# Altium footprint library Nhu-Altium-Schematic-Lin.PcbLib: 59 footprints (part 3 of 4)
Each footprint in its own frame and in the unit in brackets; x right, y up, seen from the top. Pads: shape width x height; smd on the part's side, far side on the other; paste and mask are expansions set on the pad; w line width, h text height; cw(c..) or ccw(c..) is an arc to the next point about the centre after c.
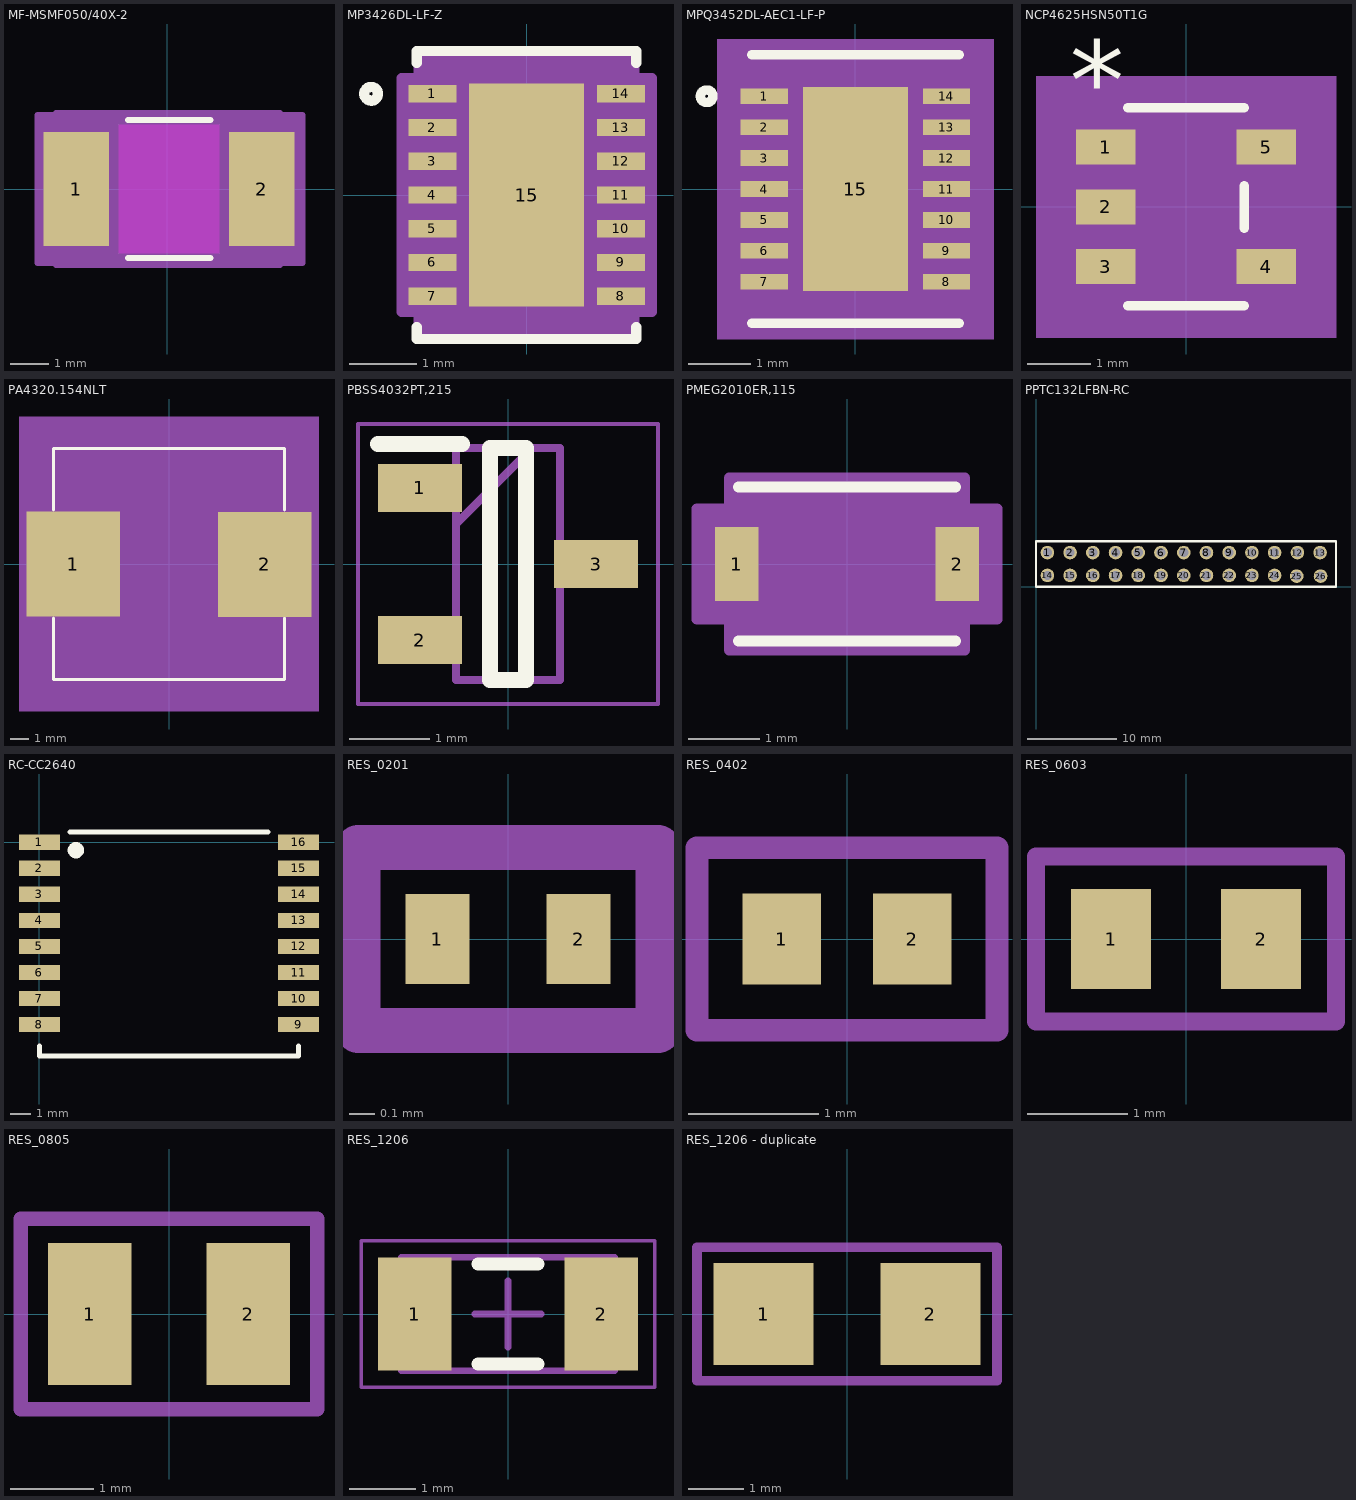
[diagram p2: the footprints below, top view; thin cyan lines are the x and y axes]

## MF-MSMF050/40X-2 [mm]
pads (2):
  rect 1.68x2.95 smd paste+0 mask+0: 1(-2.349,0) 2(2.43,0)
Top Layer keep-out:
  region: -1.255,-1.651 -1.255,1.651 1.335,1.651 1.335,-1.651
Top Overlay:
  lines w0.152: -1.016,-1.778 1.114,-1.778 ; -1.016,1.778 1.114,1.778
Mechanical 13:
  lines w0.025: -2.616,-1.702 -2.616,1.702 2.108,1.702 2.108,-1.702 -2.616,-1.702
Mechanical 15:
  region: -2.819,-1.905 -3.302,-1.905 -3.302,1.905 -2.819,1.905 -2.819,1.956 2.413,1.956 2.413,1.905 3.556,1.905 3.556,-1.905 2.413,-1.905 2.413,-1.956 -2.819,-1.956
  lines w0.152: 2.362,1.905 2.362,1.956 ; 2.845,-1.956 2.845,1.905 ; 2.897,-1.956 -2.87,-1.956 -2.87,-1.905 -3.353,-1.905 -3.353,1.905 -2.87,1.905 -2.87,1.956 2.897,1.956 ; 2.897,1.905 3.48,1.905 ; 2.997,-1.905 3.48,-1.905
3D body "MF-MSMF050.STEP": height 0.85, standoff 0, extent -2.159,-1.62 2.391,1.62

## MP3426DL-LF-Z [mil]
pads (15):
  rect 28x10 smd paste+0 mask+0: 1(-55,59.06) 2(-55,39.37) 3(-55,19.68) 4(-55,0) 5(-55,-19.69) 6(-55,-39.37) 7(-55,-59.06) 8(55,-59.06) 9(55,-39.37) 10(55,-19.68) 11(55,0) 12(55,19.69) 13(55,39.37) 14(55,59.06)
  rect 67x130 smd paste+0 mask+0: 15(0,0)
Top Overlay:
  circle w6: c-90.69,59.06 r4
  lines w6: -64,-77.16 -64,-84 64,-84 64,-77.16 ; -64,77.16 -64,84 64,84 64,77.16
Top Paste:
  region: 29.56,-3.94 -29.56,-3.94 -29.56,-61.06 29.56,-61.06
  region: 29.56,61.06 -29.56,61.06 -29.56,3.94 29.56,3.94
Mechanical 13:
  circle w0: c-41,59.06 r3
  lines w0: -12,79 ccw(c0,79) 12,79
  lines w1: -59,-79 -59,79 59,79 59,-79 -59,-79
Mechanical 15:
  region: -63,-68.06 -73,-68.06 -73,68.06 -63,68.06 -63,83 63,83 63,68.06 73,68.06 73,-68.06 63,-68.06 63,-83 -63,-83
  lines w6: -73,-68.06 -63,-68.06 -63,-83 63,-83 63,-68.06 73,-68.06 73,68.06 63,68.06 63,83 -63,83 -63,68.06 -73,68.06 -73,-68.06
3D body "QFN14_3X4_MNP.step": height 39.09, standoff 0, extent -60.98,-79.02 60.98,79.02

## MPQ3452DL-AEC1-LF-P [mil]
pads (15):
  rect 30x10 smd paste+0 mask+0: 1(-58,59.06) 2(-58,39.37) 3(-58,19.68) 4(-58,0) 5(-58,-19.69) 6(-58,-39.37) 7(-58,-59.06) 8(58,-59.06) 9(58,-39.37) 10(58,-19.68) 11(58,0) 12(58,19.69) 13(58,39.37) 14(58,59.06)
  rect 67x130 smd paste+0 mask+0: 15(0,0)
Top Overlay:
  circle w6: c-94.69,59.06 r4
  lines w6: -66,-85.5 66,-85.5 ; -66,85.5 66,85.5
Top Paste:
  region: 29.56,61.06 -29.56,61.06 -29.56,3.94 29.56,3.94
  region: 29.56,-3.94 -29.56,-3.94 -29.56,-61.06 29.56,-61.06
Mechanical 5:
  region: 88,-95.5 -88,-95.5 -88,95.5 88,95.5
Mechanical 13:
  circle w0: c-43,59.06 r3
  lines w0: -12,80.5 ccw(c0,80.5) 12,80.5
  lines w1: -61,-80.5 61,-80.5 61,80.5 -61,80.5 -61,-80.5
Mechanical 15:
  region: -71,-74.06 -83,-74.06 -83,74.06 -71,74.06 -71,90.5 71,90.5 71,74.06 83,74.06 83,-74.06 71,-74.06 71,-90.5 -71,-90.5
  lines w6: -83,-74.06 -83,74.06 -71,74.06 -71,90.5 71,90.5 71,74.06 83,74.06 83,-74.06 71,-74.06 71,-90.5 -71,-90.5 -71,-74.06 -83,-74.06
3D body "QFN-14_MPQ3452_MNP.step": height 37.09, standoff 0, extent -60.98,-80.51 60.98,80.51

## NCP4625HSN50T1G [mil]
pads (5):
  rect 37.5x22 smd paste+0 mask+0: 1(-50.25,37.4) 2(-50.25,0) 3(-50.25,-37.4) 4(50.25,-37.4) 5(50.25,37.4)
Top Overlay:
  lines w6: -36.5,-62 36.5,-62 ; -36.5,62 36.5,62 ; 36.5,-13.3 36.5,13.3
  text "*" at -72.75,54.4 h50
Mechanical 5:
  region: 94,-82 -94,-82 -94,82 94,82
Mechanical 13:
  lines w0: -12,57 ccw(c0,57) 12,57
  lines w1: -55,-47.4 -55,-27.4 -31.5,-27.4 -31.5,-47.4 -55,-47.4 ; -55,-10 -55,10 -31.5,10 -31.5,-10 -55,-10 ; -55,27.4 -55,47.4 -31.5,47.4 -31.5,27.4 -55,27.4 ; -31.5,-57 31.5,-57 31.5,57 -31.5,57 -31.5,-57 ; 31.5,-47.4 31.5,-27.4 55,-27.4 55,-47.4 31.5,-47.4 ; 31.5,27.4 31.5,47.4 55,47.4 55,27.4 31.5,27.4
  text "*" at -29,4 h50
Mechanical 15:
  region: -41.5,-58.4 -79,-58.4 -79,58.4 -41.5,58.4 -41.5,67 41.5,67 41.5,58.4 79,58.4 79,-58.4 41.5,-58.4 41.5,-67 -41.5,-67
  lines w6: -79,-58.4 -79,58.4 -41.5,58.4 -41.5,67 41.5,67 41.5,58.4 79,58.4 79,-58.4 41.5,-58.4 41.5,-67 -41.5,-67 -41.5,-58.4 -79,-58.4
3D body "SOT23-5_ONS.step": height 57.09, standoff 0, extent -55,-57.01 55,57.01

## PA4320.154NLT [mil]
pads (2):
  rect 200x225 smd paste+0 mask+0: 1(-205,0) 2(205,-0.87)
Top Overlay:
  lines w6: -247,-115.6 -247,-247 247,-247 247,-115.6 ; -247,115.6 -247,247 247,247 247,115.6
Mechanical 5:
  region: 320.5,-314.5 -320.5,-314.5 -320.5,314.5 320.5,314.5
Mechanical 13:
  lines w1: -242,-121 -121,-242 ; -242,121 -121,242 ; -242,-242 -242,242 242,242 242,-242 -242,-242
Mechanical 15:
  region: 242,-242 -242,-242 -242,242 242,242
  region: -252,-112.5 -258,-112.5 -258,112.5 -252,112.5 -252,252 252,252 252,112.5 258,112.5 258,-112.5 252,-112.5 252,-252 -252,-252
  lines w6: -258,-112.5 -252,-112.5 -252,-252 252,-252 252,-112.5 258,-112.5 258,112.5 252,112.5 252,252 -252,252 -252,112.5 -258,112.5 -258,-112.5
3D body "IND_PA4320_PUL.step": height 402.01, standoff 0, extent -242.01,-242.01 242.01,242.01

## PBSS4032PT,215 [mm]
pads (3):
  rect 1.05x0.6 smd: 1(-1.1,0.95) 2(-1.1,-0.95) 3(1.1,0)
Top Overlay:
  lines w0.2: -1.625,1.5 -0.575,1.5 ; -0.225,-1.45 0.225,-1.45 0.225,1.45 -0.225,1.45 -0.225,-1.45
Mechanical 13:
  lines w0.1: -0.65,0.5 0.3,1.45 ; -0.65,-1.45 0.65,-1.45 0.65,1.45 -0.65,1.45 -0.65,-1.45
Mechanical 15:
  lines w0.05: -1.875,-1.75 1.875,-1.75 1.875,1.75 -1.875,1.75 -1.875,-1.75
3D body "PBSS4032PT,215.stp": height 0.84, standoff -0.11, extent -1.27,-1.45 1.131,1.45

## PCBComponent_1 [mil]

## PMEG2010ER,115 [mil]
pads (2):
  rect 24x41 smd paste+0 mask+0: 1(-60.83,0) 2(60.83,0)
Top Overlay:
  lines w6: -60,-42.5 60,-42.5 ; -60,42.5 60,42.5
Mechanical 13:
  lines w1: -55,-37.5 55,-37.5 55,37.5 -55,37.5 -55,-37.5
Mechanical 15:
  region: -65,-30.5 -82.83,-30.5 -82.83,30.5 -65,30.5 -65,47.5 65,47.5 65,30.5 82.83,30.5 82.83,-30.5 65,-30.5 65,-47.5 -65,-47.5
  lines w6: -82.83,-30.5 -82.83,30.5 -65,30.5 -65,47.5 65,47.5 65,30.5 82.83,30.5 82.83,-30.5 65,-30.5 65,-47.5 -65,-47.5 -65,-30.5 -82.83,-30.5
3D body "DIODE_PMEG2010ER115_NEX.step": height 43.11, standoff 0, extent -72.83,-37.48 72.83,37.48

## PPTC132LFBN-RC [mil] "CONN HDR 26POS 0.1 TIN PCB"
pads (26):
  round 60 hole 40.16: 1(50,150) 2(150,150) 3(250,150) 4(350,150) 5(450,150) 6(550,150) 7(650,150) 8(750,150) 9(850,150) 10(950,150) 11(1050,150) 12(1150,150) 13(1250,150) 14(50,50) 15(150,50) 16(250,50) 17(350,50) 18(450,50) 19(550,50) 20(650,50) 21(750,50) 22(850,50) 23(950,50) 24(1050,50) 25(1147.06,46.65) 26(1252.06,46.65)
Top Overlay:
  lines w10: 0,0 0.12,0.12 1320,0.12 1320,200 0,200 0,0
3D body "PPTC132LFBN-RC--3DModel-STEP-269445.STEP": height 335, standoff -134, extent -5,0 1315,200

## RC-CC2640 [mm] "Bluetooth v4.2 Bluetooth v5.0 Transceiver Module"
pads (16):
  rect 2x0.75 smd: 1(0,0) 2(0,-1.27) 3(0,-2.54) 4(0,-3.81) 5(0,-5.08) 6(0,-6.35) 7(0,-7.62) 8(0,-8.89) 9(12.64,-8.89) 10(12.64,-7.62) 11(12.64,-6.35) 12(12.64,-5.08) 13(12.64,-3.81) 14(12.64,-2.54) 15(12.64,-1.27) 16(12.64,0)
Top Overlay:
  circle w0.4: c1.778,-0.381 r0.2
  lines w0.254: 0,-9.93 0,-10.43 12.64,-10.43 12.64,-9.93 ; 1.5,0.5 11.14,0.5

## RES_0201 [mm]
pads (2):
  rect 0.25x0.35 smd mask+0.05: 1(-0.275,0) 2(0.275,0)
Mechanical 13:
  lines w0.175: -0.584,-0.356 -0.584,0.356 0.584,0.356 0.584,-0.356 -0.584,-0.356
  text "'.Designator'" at -5.665,-0.417 h1
3D body "R0201.step": height 0.15, standoff 0, extent -0.3,-0.15 0.3,0.15

## RES_0402 [mm]
pads (2):
  rect 0.6x0.7 smd: 1(-0.5,0) 2(0.5,0)
Mechanical 13:
  lines w0.175: -1.15,-0.7 -1.15,0.7 1.15,0.7 1.15,-0.7 -1.15,-0.7
  text "'.Designator'" at -5.665,-0.417 h1
3D body "R0402.step": height 0.3, standoff 0, extent -0.5,-0.25 0.5,0.25

## RES_0603 [mm]
pads (2):
  rect 0.8x1 smd: 1(-0.75,0) 2(0.75,0)
Mechanical 13:
  lines w0.175: -1.5,-0.825 -1.5,0.825 1.5,0.825 1.5,-0.825 -1.5,-0.825
  text "'.Designator'" at -5.665,-0.417 h1
3D body "R0603.step": height 0.52, standoff 0.01, extent -0.8,-0.43 0.8,0.43

## RES_0805 [mm]
pads (2):
  rect 1x1.7 smd: 1(-0.95,0) 2(0.95,0)
Mechanical 13:
  lines w0.175: -1.778,-1.143 -1.778,1.143 1.778,1.143 1.778,-1.143 -1.778,-1.143
  text "'.Designator'" at -5.665,-0.417 h1
3D body "R0805.step": height 0.47, standoff 0.01, extent -1,-0.63 1,0.63

## RES_1206 [mm] "Chip Resistor SMD 1206"
height 0.65
pads (2):
  rect 1.1x1.7 smd: 1(-1.4,0) 2(1.4,0)
Top Overlay:
  lines w0.2: -0.45,-0.75 0.45,-0.75 ; -0.45,0.75 0.45,0.75
Mechanical 13:
  lines w0.1: -1.6,-0.85 -1.6,0.85 1.6,0.85 1.6,-0.85 -1.6,-0.85
Mechanical 15:
  lines w0.05: -2.2,-1.1 -2.2,1.1 2.2,1.1 2.2,-1.1 -2.2,-1.1
  lines w0.1: -0.5,0 0.5,0 ; 0,-0.5 0,0.5
3D body "RES_1206.step": height 0.65, standoff 0, extent -1.6,-0.85 1.6,0.85

## RES_1206 - duplicate [mm]
pads (2):
  rect 1.8x1.84 smd: 1(-1.5,0) 2(1.5,0)
Mechanical 13:
  lines w0.175: -2.7,-1.2 -2.7,1.2 2.7,1.2 2.7,-1.2 -2.7,-1.2
  text "'.Designator'" at -5.665,-0.417 h1
3D body "R1206.step": height 0.57, standoff 0.01, extent -1.6,-0.83 1.6,0.83